# EAGLE library part CC6-2403SF-E (library CC6-2403SF-E)
Check availability <https://pricing.snapeda.com/parts/CC6-2403SF-E/TDK-Lambda/view-part?ref=eda>
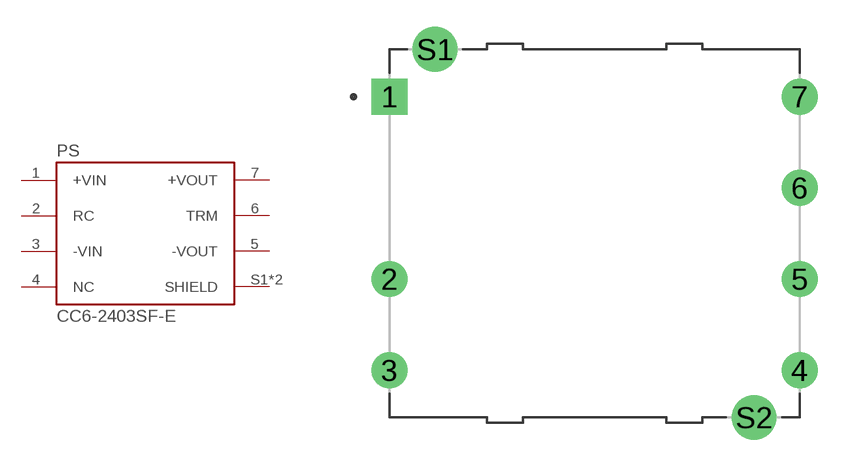
[diagram p0: symbol with the pads of CONV_CC6-2403SF-E; footprint CONV_CC6-2403SF-E]

Designator prefix PS

## CC6-2403SF-E (AVAILABILITY: In Stock; DESCRIPTION: 1.5-10W, Ultra Compact Single and Dual DC-DC Converters; MF: TDK-Lambda; MP: CC6-2403SF-E; PACKAGE: DIP-11 TDK-Lambda; PRICE: None; PURCHASE-URL: https://pricing.snapeda.com/search/part/CC6-2403SF-E/?ref=eda)  [CONV_CC6-2403SF-E]
1  +VIN  in
2  RC  pas
3  -VIN  in
4  NC  nc
5  -VOUT  out
6  TRM  pas
7  +VOUT  out
S1  SHIELD  pas
S2  SHIELD  pas

## Footprint CONV_CC6-2403SF-E (pad centres in mm)
drill 1 pad 2 square: 1 -11.43,7.62
drill 1 pad 2: 2 -11.43,-2.54; 3 -11.43,-7.62; 4 11.43,-7.62; 5 11.43,-2.54; 6 11.43,2.54; 7 11.43,7.62
drill 1.5 pad 2.5: S1 -8.89,10.25; S2 8.89,-10.25